# EAGLE library part TPS2115A (library ICs)
OR Controller Source Selector Switch N-Channel 2:1 8-TSSOP
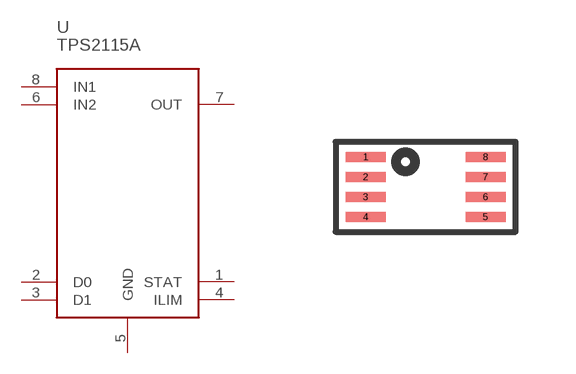
[diagram p50: symbol with the pads of TSSOP8; footprint TSSOP8]

Designator prefix U

## TPS2115APW (DIGIKEY: 296-16940-1-ND; HEIGHT: 1; PRICE_PER: 1.8; VALUE: TPS2115A)  [TSSOP8]
1  STAT
2  D0
3  D1
4  ILIM
5  GND
6  IN2
7  OUT
8  IN1

## Footprint TSSOP8 (pad centres in mm)
smd 1 x 0.25: 1 -1.5,0.75; 2 -1.5,0.25; 3 -1.5,-0.25; 4 -1.5,-0.75; 5 1.5,-0.75; 6 1.5,-0.25; 7 1.5,0.25; 8 1.5,0.75